# EAGLE library part UM245R (library monome)
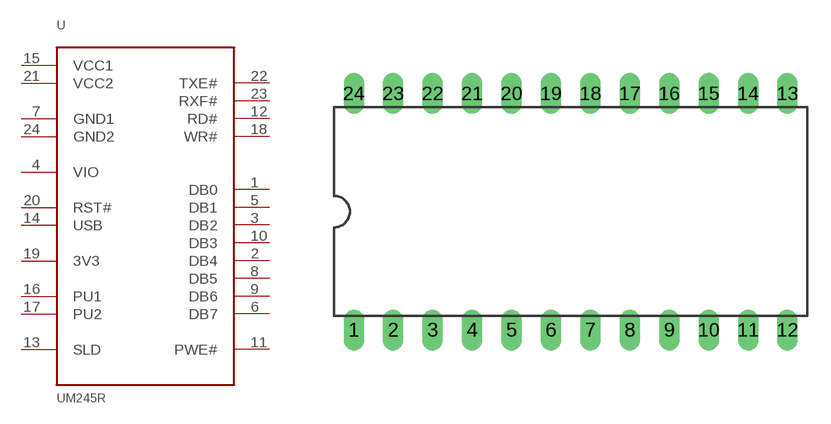
[diagram p12: symbol with the pads of DIL24; footprint DIL24]

Designator prefix -

## UM245R  [DIL24]
1  DB0
2  DB4
3  DB2
4  VIO  pwr
5  DB1
6  DB7
7  GND1  pwr
8  DB5
9  DB6
10  DB3
11  PWE#
12  RD#
13  SLD  pwr
14  USB
15  VCC1  pwr
16  PU1
17  PU2
18  WR#
19  3V3  out
20  RST#  in
21  VCC2  pwr
22  TXE#
23  RXF#
24  GND2  pwr

## Footprint DIL24 (pad centres in mm)
Dual In Line Package
drill 0.813 long: 1 -13.97,-7.62; 2 -11.43,-7.62; 3 -8.89,-7.62; 4 -6.35,-7.62; 5 -3.81,-7.62; 6 -1.27,-7.62; 7 1.27,-7.62; 8 3.81,-7.62; 9 6.35,-7.62; 10 8.89,-7.62; 11 11.43,-7.62; 12 13.97,-7.62; 13 13.97,7.62; 14 11.43,7.62; 15 8.89,7.62; 16 6.35,7.62; 17 3.81,7.62; 18 1.27,7.62; 19 -1.27,7.62; 20 -3.81,7.62; 21 -6.35,7.62; 22 -8.89,7.62; 23 -11.43,7.62; 24 -13.97,7.62